# Altium schematic symbol library UCC28180.SchLib: 1 symbol
Pins are listed as number, name and electrical type; pins without a type are passive.

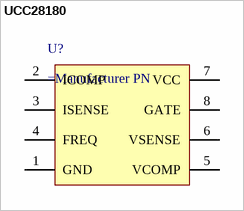
[diagram p0: symbol UCC28180]

## UCC28180
designator U?
Power Factor Correction IC
pins: 1 GND, 2 ICOMP, 3 ISENSE, 4 FREQ, 5 VCOMP, 6 VSENSE, 7 VCC, 8 GATE